# Altium footprint library Util.PcbLib: 3 footprints
Each footprint in its own frame and in the unit in brackets; x right, y up, seen from the top. Pads: shape width x height; smd on the part's side, far side on the other; paste and mask are expansions set on the pad; w line width, h text height; cw(c..) or ccw(c..) is an arc to the next point about the centre after c.
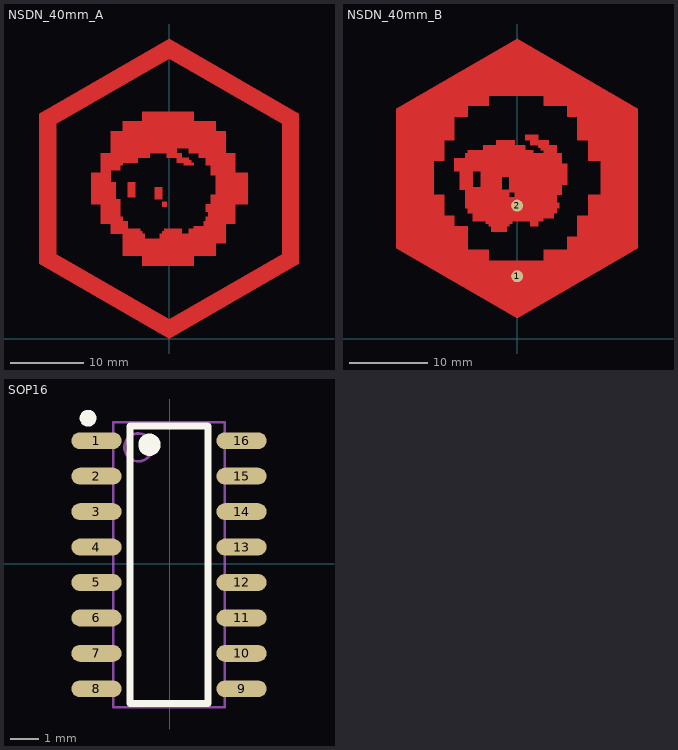
[diagram p0: the footprints below, top view; thin cyan lines are the x and y axes]

## NSDN_40mm_A [mm]
Top Layer:
  region: -9.296,22.682 -9.296,25.349 -7.976,25.349 -7.976,28.346 -6.299,28.346 -6.299,29.693 -3.632,29.693 -3.632,30.988 3.378,30.988 3.378,29.693 6.375,29.693 6.375,28.346 7.696,28.346 7.696,25.349 9.042,25.349 9.042,22.682 6.375,22.352 5.69,22.352 5.69,23.698 5.029,23.698 5.029,24.689 4.039,24.689 4.039,25.349 2.692,25.349 2.692,26.035 1.041,26.035 1.041,25.349 1.702,25.349 1.702,24.689 2.692,24.689 2.692,24.359 3.023,24.359 3.035,24.028 3.378,24.028 3.378,23.698 2.032,23.698 2.032,24.028 1.041,24.028 1.041,24.689 -0.305,24.689 -0.305,25.349 -2.642,25.349 -2.642,24.689 -4.293,24.689 -4.293,24.028 -6.299,24.028 -6.299,23.698 -6.629,23.698 -6.629,23.012 -7.976,23.012
  region: -9.296,22.682 -10.617,22.682 -10.617,18.364 -9.296,18.364 -9.296,15.697 -7.976,15.697 -7.976,14.351 -6.299,14.351 -6.299,11.354 -3.632,11.354 -3.632,9.982 3.378,9.982 3.378,11.354 6.375,11.354 6.375,13.03 7.696,13.03 7.696,15.697 9.042,15.697 9.017,18.364 10.693,18.364 10.693,22.682 9.042,22.682 6.375,22.352 6.375,19.685 5.69,19.685 5.69,18.364 5.029,18.364 5.029,17.348 5.359,17.348 5.359,16.688 5.029,16.688 5.029,16.027 4.699,16.027 4.699,15.367 3.378,15.367 3.378,15.011 2.692,15.011 2.692,14.351 1.702,14.351 1.702,15.011 -0.635,15.011 -0.635,14.681 -0.965,14.681 -0.965,14.351 -1.295,14.351 -1.295,13.691 -3.302,13.691 -3.302,14.351 -3.632,14.351 -3.632,14.681 -3.962,14.681 -3.962,15.011 -5.639,15.011 -5.639,16.027 -6.299,16.027 -6.299,16.688 -6.629,16.688 -6.629,19.025 -7.29,19.025 -7.29,21.361 -7.976,21.361 -7.976,23.012
  region: -0.965,18.694 -0.305,18.694 -0.305,18.034 -0.965,18.034
  region: -1.956,20.701 -0.965,20.701 -0.965,19.025 -1.956,19.025
  region: -5.639,21.361 -4.623,21.361 -4.623,19.355 -5.639,19.355
  region: 0,40.894 17.704,30.683 17.704,10.236 15.418,11.557 15.418,29.337 0,38.227
  region: -17.704,10.236 -17.729,30.683 0,40.894 0,38.227 -15.392,29.337 -15.392,11.557
  region: -17.704,10.236
  region: 0,0 -17.704,10.236 -15.392,11.557 0,2.667 15.418,11.557 17.704,10.236
Top Layer keep-out:
  region: 0,0

## NSDN_40mm_B [mil]
pads (2):
  round 60 smd: 1(0,314.96) 2(0,669.29)
Top Layer:
  region: -697,403
  region: 0,105 -606,455 -606,1155 0,1505 0,1220 -143,1220 -143,1169 -248,1169 -248,1116 -314,1116 -314,998 -366,998 -366,893 -419,893 -419,723 -366,723 -366,618 -314,618 -314,565 -248,565 -248,447 -143,447 -143,393 0,393
  region: 0,105 606,455 606,1155 0,1505 0,1220 133,1220 133,1169 251,1169 251,1116 303,1116 303,998 356,998 356,893 421,893 421,723 356,723 356,618 303,618 303,513 251,513 251,447 133,447 133,393 0,393
  region: -314,841 -314,906 -261,906 -261,933 -248,933 -248,946 -169,946 -169,972 -104,972 -104,998 -12,998 -12,972 41,972 41,946 80,946 80,933 133,933 133,946 119,946 119,959 106,959 106,972 66.5,972 66.5,998 41,998 41,1025 106,1025 106,998 159,998 159,972 198,972 198,933 224,933 224,880 251,880 251,775 224,775 224,723 -12,723 -12,736 -38,736 -38,815 -182,815 -182,841
  region: -287.5,841 -287.5,749 -261,749 -261,657 -248,657 -248,631 -222,631 -222,591.5 -156,591.5 -156,578 -143,578 -143,565 -130,565 -130,539 -51,539 -51,565 -38,565 -38,578 -25,578 -25,591 66.5,591 66.5,565 106.5,565 106.5,591.5 132.5,591.5 132.5,605 185,605 185,631 198,631 198,657 211,657 211,683 198,683 198,723 -12,723 -12,710 -38,710 -38,749 -77,749 -77,815 -182,815 -182,762 -222,762 -222,841
  region: -104,1047
Top Layer keep-out:
  region: 0,0
Top Solder:
  region: 0,105 606,455 606,1155 0,1505 0,1220 133,1220 133,1169 251,1169 251,1116 303,1116 303,998 356,998 356,893 421,893 421,723 356,723 356,618 303,618 303,513 251,513 251,447 133,447 133,393 0,393
  region: -287.5,841 -287.5,749 -261,749 -261,657 -248,657 -248,631 -222,631 -222,591.5 -156,591.5 -156,578 -143,578 -143,565 -130,565 -130,539 -51,539 -51,565 -38,565 -38,578 -25,578 -25,591 66.5,591 66.5,565 106.5,565 106.5,591.5 132.5,591.5 132.5,605 185,605 185,631 198,631 198,657 211,657 211,683 198,683 198,723 -12,723 -12,710 -38,710 -38,749 -77,749 -77,815 -182,815 -182,762 -222,762 -222,841
  region: -314,841 -314,906 -261,906 -261,933 -248,933 -248,946 -169,946 -169,972 -104,972 -104,998 -12,998 -12,972 41,972 41,946 80,946 80,933 133,933 133,946 119,946 119,959 106,959 106,972 66.5,972 66.5,998 41,998 41,1025 106,1025 106,998 159,998 159,972 198,972 198,933 224,933 224,880 251,880 251,775 224,775 224,723 -12,723 -12,736 -38,736 -38,815 -182,815 -182,841
  region: 0,105 -606,455 -606,1155 0,1505 0,1220 -143,1220 -143,1169 -248,1169 -248,1116 -314,1116 -314,998 -366,998 -366,893 -419,893 -419,723 -366,723 -366,618 -314,618 -314,565 -248,565 -248,447 -143,447 -143,393 0,393

## SOP16 [mm]
pads (16):
  oval 1.8x0.6 smd: 1(-2.634,4.403) 2(-2.634,3.133) 3(-2.634,1.863) 4(-2.634,0.593) 5(-2.634,-0.677) 6(-2.634,-1.947) 7(-2.634,-3.217) 8(-2.634,-4.487) 9(2.566,-4.487) 10(2.566,-3.217) 11(2.566,-1.947) 12(2.566,-0.677) 13(2.566,0.593) 14(2.566,1.863) 15(2.566,3.133) 16(2.566,4.403)
Top Overlay:
  circle w0.3: c-2.934,5.208 r0.15
  circle w0.4: c-0.734,4.258 r0.2
  lines w0.254: -1.434,-5.017 -1.434,4.933 1.366,4.933 1.366,-5.017 -1.434,-5.017
Mechanical 13:
  circle w0.1: c-1.129,4.163 r0.5
  lines w0.1: -2.029,-5.147 -2.029,5.063 1.961,5.063 1.961,-5.147 -2.029,-5.147